# Altium footprint library Components.PcbLib: 29 footprints (part 1 of 2)
Each footprint in its own frame and in the unit in brackets; x right, y up, seen from the top. Pads: shape width x height; smd on the part's side, far side on the other; paste and mask are expansions set on the pad; w line width, h text height; cw(c..) or ccw(c..) is an arc to the next point about the centre after c.
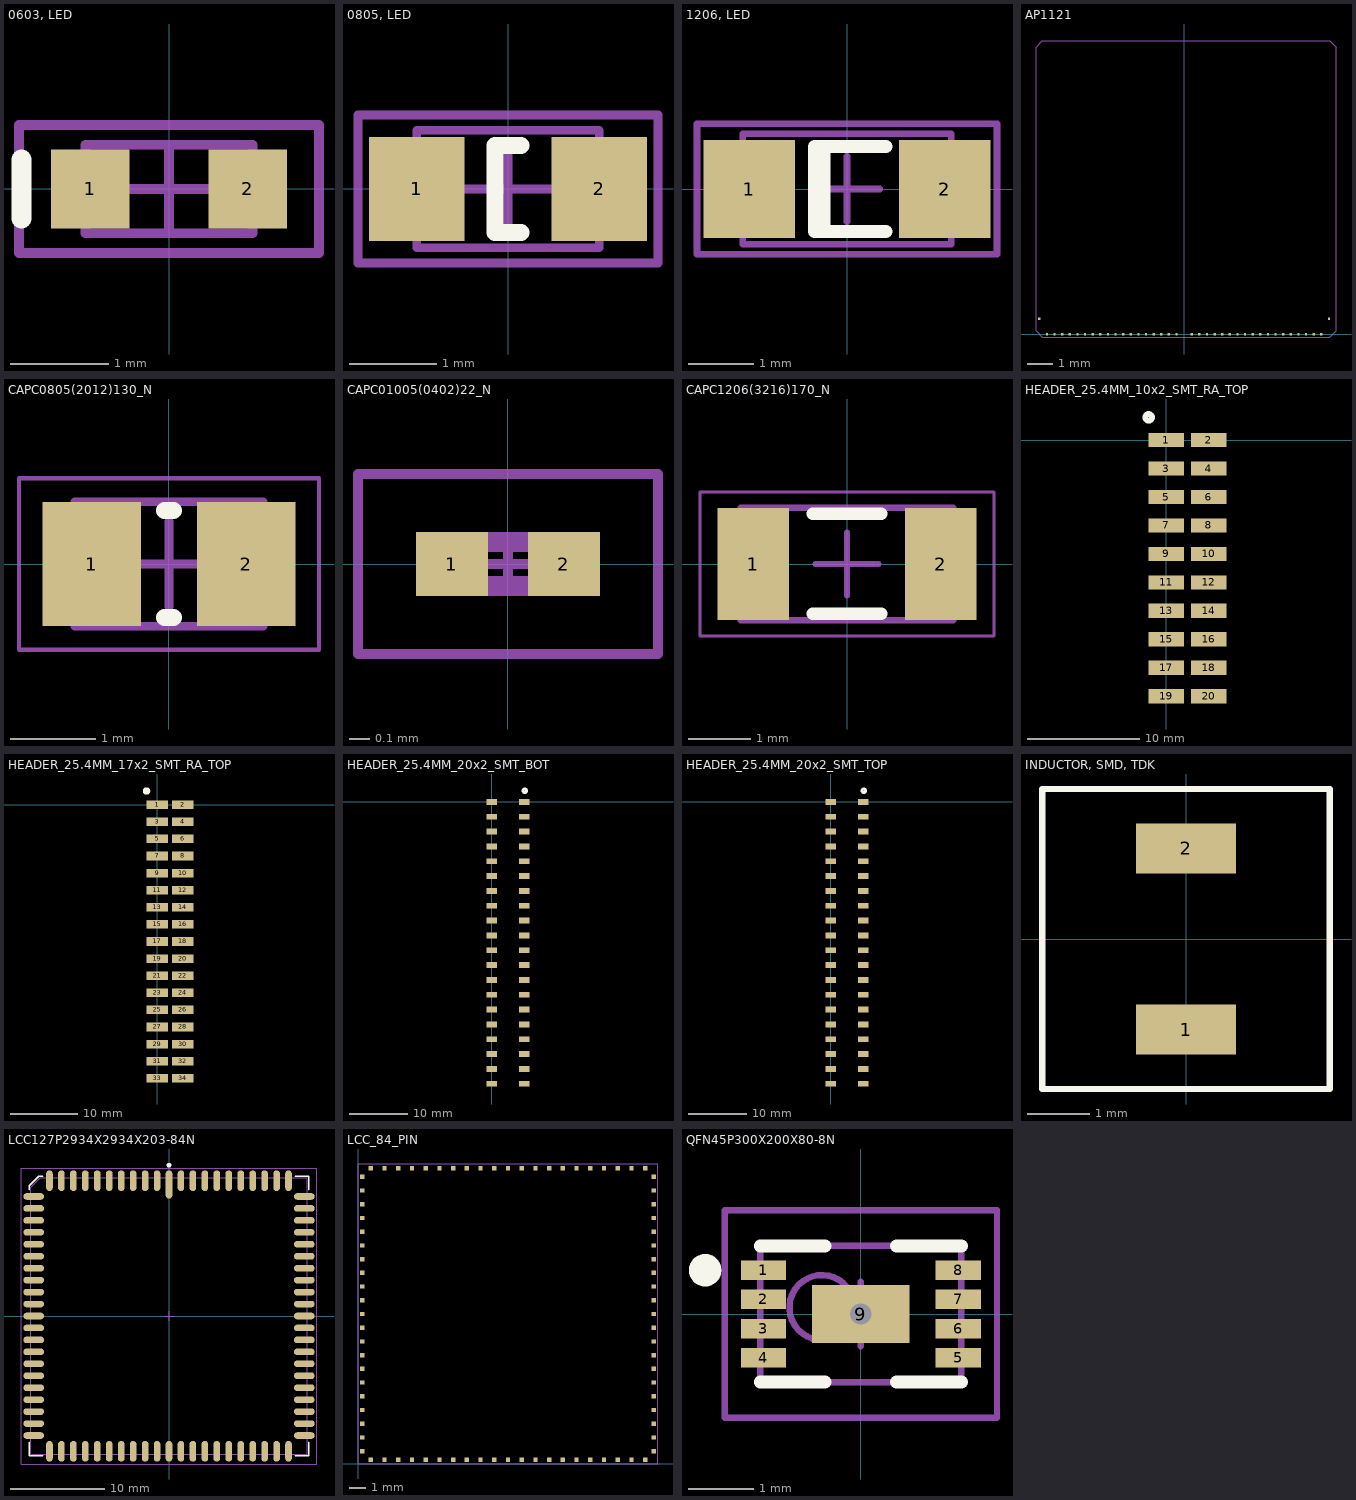
[diagram p0: the footprints below, top view; thin cyan lines are the x and y axes]

## 0603, LED [mm] "Chip LED, 2-Leads, Body 1.6x0.8mm, IPC Medium Density"
height 0.68
pads (2):
  rect 0.8x0.8 smd: 1(-0.8,0) 2(0.8,0)
Top Overlay:
  lines w0.2: -1.5,-0.3 -1.5,0.3
Mechanical 13:
  lines w0.1: -0.85,-0.45 -0.85,0.45 0.85,0.45 0.85,-0.45 -0.85,-0.45
Mechanical 15:
  lines w0.1: -0.45,0 0.45,0 ; 0,-0.45 0,0.45 ; -1.525,-0.65 -1.525,0.65 1.525,0.65 1.525,-0.65 -1.525,-0.65
3D body: height 0.7, standoff 0, extent -0.8,-0.4 0.8,0.4

## 0805, LED [mm] "Chip LED, 2-Leads, Body 2.0x1.3mm, IPC Medium Density"
height 0.8
pads (2):
  rect 1.1x1.2 smd: 1(-1.05,0) 2(1.05,0)
Top Overlay:
  lines w0.2: 0.15,-0.5 -0.15,-0.5 -0.15,0.5 0.15,0.5
Mechanical 13:
  lines w0.1: -1.05,-0.675 1.05,-0.675 1.05,0.675 -1.05,0.675 -1.05,-0.675
Mechanical 15:
  lines w0.1: -0.5,0 0.5,0 ; 0,-0.5 0,0.5 ; -1.725,-0.85 1.725,-0.85 1.725,0.85 -1.725,0.85 -1.725,-0.85
3D body: height 0.68, standoff -0.02, extent -1,-0.625 1,0.625

## 1206, LED [mm] "Chip LED, 2-Leads, Body 3.2x1.6mm, IPC Medium Density"
height 0.69
pads (2):
  rect 1.4x1.5 smd: 1(-1.5,0) 2(1.5,0)
Top Overlay:
  rectangle: -0.458,-0.665 -0.254,0.635
  lines w0.2: 0.6,-0.65 -0.5,-0.65 -0.5,0.65 0.6,0.65
Mechanical 13:
  lines w0.1: -1.6,-0.85 1.6,-0.85 1.6,0.85 -1.6,0.85 -1.6,-0.85
Mechanical 15:
  lines w0.1: -0.5,0 0.5,0 ; 0,-0.5 0,0.5 ; -2.3,-1 2.3,-1 2.3,1 -2.3,1 -2.3,-1
3D body: height 0.68, standoff 0, extent -1.6,-0.8 1.6,0.8

## AP1121 [mm]
pads (39):
  rect 0.09x0.1 smd paste+0 mask+0: 1(-5.41,0) 2(-5.11,0) 3(-4.81,0) 4(-4.51,0) 5(-4.21,0) 6(-3.91,0) 7(-3.61,0) 8(-3.31,0) 9(-3.01,0) 10(-2.71,0) 11(-2.41,0) 12(-2.11,0) 13(-1.81,0) 14(-1.51,0) 15(-1.21,0) 16(-0.91,0) 17(-0.61,0) 18(-0.31,0) 19(0.29,0) 20(0.59,0) 21(0.89,0) 22(1.19,0) 23(1.49,0) 24(1.79,0) 25(2.09,0) 26(2.39,0) 27(2.69,0) 28(2.99,0) 29(3.29,0) 30(3.59,0) 31(3.89,0) 32(4.19,0) 33(4.49,0) 34(4.79,0) 35(5.09,0) 36(5.39,0) 36(5.39,0) L(-5.71,0.6) R(5.69,0.6)
Mechanical 1:
  lines w0.025: -5.842,0.127 -5.842,11.303 -5.588,11.557 5.715,11.557 5.969,11.303 5.969,0.127 5.715,-0.127 0,-0.127 -5.588,-0.127 -5.842,0.127

## CAPC0805(2012)130_N [mm] "Chip Capacitor, Body 2.0x1.2mm, Height 1.3mm, IPC Medium Density"
height 1.3
pads (2):
  rect 1.15x1.45 smd: 1(-0.9,0) 2(0.9,0)
Top Overlay:
  lines w0.2: -0.05,-0.625 0.05,-0.625 ; -0.05,0.625 0.05,0.625
Mechanical 13:
  lines w0.1: -1.1,-0.725 1.1,-0.725 1.1,0.725 -1.1,0.725 -1.1,-0.725
Mechanical 15:
  lines w0.05: -1.75,-1 1.75,-1 1.75,1 -1.75,1 -1.75,-1
  lines w0.1: -0.5,0 0.5,0 ; 0,-0.5 0,0.5
3D body: height 1.3, standoff 0, extent 0.6,-0.725 1.1,0.725
3D body: height 1.3, standoff 0, extent -1.1,-0.725 -0.6,0.725
3D body: height 1.3, standoff 0, extent -0.6,-0.725 0.6,0.725

## CAPC01005(0402)22_N [mm] "Chip Capacitor, Body 0.4x0.2mm, Height 0.22mm, IPC Medium Density"
height 0.22
pads (2):
  rect 0.36x0.32 smd: 1(-0.28,0) 2(0.28,0)
Mechanical 13:
  lines w0.1: -0.21,-0.11 -0.21,0.11 0.21,0.11 0.21,-0.11 -0.21,-0.11
Mechanical 15:
  lines w0.05: -0.11,0 0.11,0 ; 0,-0.11 0,0.11 ; -0.75,-0.45 -0.75,0.45 0.75,0.45 0.75,-0.45 -0.75,-0.45
3D body: height 0.22, standoff 0, extent -0.11,-0.11 0.11,0.11
3D body: height 0.22, standoff 0, extent -0.21,-0.11 -0.11,0.11
3D body: height 0.22, standoff 0, extent 0.11,-0.11 0.21,0.11

## CAPC1206(3216)170_N [mm] "Chip Capacitor, Body 3.2x1.6mm, Height 1.7mm, IPC Medium Density"
height 1.7
pads (2):
  rect 1.15x1.8 smd: 1(-1.5,0) 2(1.5,0)
Top Overlay:
  lines w0.2: -0.55,-0.8 0.55,-0.8 ; -0.55,0.8 0.55,0.8
Mechanical 13:
  lines w0.1: -1.7,-0.9 1.7,-0.9 1.7,0.9 -1.7,0.9 -1.7,-0.9
Mechanical 15:
  lines w0.05: -2.35,-1.15 2.35,-1.15 2.35,1.15 -2.35,1.15 -2.35,-1.15
  lines w0.1: -0.5,0 0.5,0 ; 0,-0.5 0,0.5
3D body: height 1.7, standoff 0, extent 1.2,-0.9 1.7,0.9
3D body: height 1.7, standoff 0, extent -1.7,-0.9 -1.2,0.9
3D body: height 1.7, standoff 0, extent -1.2,-0.9 1.2,0.9

## DCB Package [mm] "8-lead (2mm x 3mm) Plastic DFN w/ expoed pad"
height 0.75

## HEADER_25.4MM_10x2_SMT_RA_TOP [mm] "Samtec TSM 0.1\" 1x10 Header"
height 9.65
pads (20):
  rect 3.18x1.27 smd: 1(0,0) 2(3.81,0) 3(0,-2.54) 4(3.81,-2.54) 5(0,-5.08) 6(3.81,-5.08) 7(0,-7.62) 8(3.81,-7.62) 9(0,-10.16) 10(3.81,-10.16) 11(0,-12.7) 12(3.81,-12.7) 13(0,-15.24) 14(3.81,-15.24) 15(0,-17.78) 16(3.81,-17.78) 17(0,-20.32) 18(3.81,-20.32) 19(0,-22.86) 20(3.81,-22.86)
Top Overlay:
  circle w0.5: c-1.57,2.032 r0.3
3D body: height 6.1, standoff 0, extent -1.143,-24.13 15.113,1.27

## HEADER_25.4MM_17x2_SMT_RA_TOP [mm] "Samtec TSM 0.1\" 1x17 Header"
height 9.65
pads (34):
  rect 3.18x1.27 smd: 1(0,0) 2(3.81,0) 3(0,-2.54) 4(3.81,-2.54) 5(0,-5.08) 6(3.81,-5.08) 7(0,-7.62) 8(3.81,-7.62) 9(0,-10.16) 10(3.81,-10.16) 11(0,-12.7) 12(3.81,-12.7) 13(0,-15.24) 14(3.81,-15.24) 15(0,-17.78) 16(3.81,-17.78) 17(0,-20.32) 18(3.81,-20.32) 19(0,-22.86) 20(3.81,-22.86) 21(0,-25.4) 22(3.81,-25.4) 23(0,-27.94) 24(3.81,-27.94) 25(0,-30.48) 26(3.81,-30.48) 27(0,-33.02) 28(3.81,-33.02) 29(0,-35.56) 30(3.81,-35.56) 31(0,-38.1) 32(3.81,-38.1) 33(0,-40.64) 34(3.81,-40.64)
Top Overlay:
  circle w0.5: c-1.57,2.032 r0.3
3D body: height 6.05, standoff -0.05, extent -0.889,-41.91 15.367,1.27

## HEADER_25.4MM_20x2_SMT_BOT [mm] "Samtec TSM 0.1\" 2x20 Header"
height 9.65
pads (40):
  rect 1.82x1 smd: 1(5.588,0) 2(0,0) 3(5.588,-2.54) 4(0,-2.54) 5(5.588,-5.08) 6(0,-5.08) 7(5.588,-7.62) 8(0,-7.62) 9(5.588,-10.16) 10(0,-10.16) 11(5.588,-12.7) 12(0,-12.7) 13(5.588,-15.24) 14(0,-15.24) 15(5.588,-17.78) 16(0,-17.78) 17(5.588,-20.32) 18(0,-20.32) 19(5.588,-22.86) 20(0,-22.86) 21(5.588,-25.4) 22(0,-25.4) 23(5.588,-27.94) 24(0,-27.94) 25(5.588,-30.48) 26(0,-30.48) 27(5.588,-33.02) 28(0,-33.02) 29(5.588,-35.56) 30(0,-35.56) 31(5.588,-38.1) 32(0,-38.1) 33(5.588,-40.64) 34(0,-40.64) 35(5.588,-43.18) 36(0,-43.18) 37(5.588,-45.72) 38(0,-45.72) 39(5.588,-48.26) 40(0,-48.26)
Top Overlay:
  circle w0.5: c5.669,1.905 r0.3
  text ".Designator" at -0.889,1.905 h1.02
3D body: height 9.61, standoff -0.04, extent -0.889,-49.53 6.477,1.27

## HEADER_25.4MM_20x2_SMT_TOP [mm] "Samtec TSM 0.1\" 2x20 Header"
height 9.65
pads (40):
  rect 1.82x1 smd: 1(0,0) 2(5.588,0) 3(0,-2.54) 4(5.588,-2.54) 5(0,-5.08) 6(5.588,-5.08) 7(0,-7.62) 8(5.588,-7.62) 9(0,-10.16) 10(5.588,-10.16) 11(0,-12.7) 12(5.588,-12.7) 13(0,-15.24) 14(5.588,-15.24) 15(0,-17.78) 16(5.588,-17.78) 17(0,-20.32) 18(5.588,-20.32) 19(0,-22.86) 20(5.588,-22.86) 21(0,-25.4) 22(5.588,-25.4) 23(0,-27.94) 24(5.588,-27.94) 25(0,-30.48) 26(5.588,-30.48) 27(0,-33.02) 28(5.588,-33.02) 29(0,-35.56) 30(5.588,-35.56) 31(0,-38.1) 32(5.588,-38.1) 33(0,-40.64) 34(5.588,-40.64) 35(0,-43.18) 36(5.588,-43.18) 37(0,-45.72) 38(5.588,-45.72) 39(0,-48.26) 40(5.588,-48.26)
Top Overlay:
  circle w0.5: c5.669,1.905 r0.3
  text ".Designator" at -0.889,1.905 h1.02
3D body: height 9.61, standoff -0.04, extent -0.889,-49.53 6.477,1.27

## INDUCTOR, SMD, TDK [mm] "TDK VLF SERIES, VLF5014S"
height 1.4
pads (2):
  rect 1.6x0.8 smd: 1(0,-1.45) 2(0,1.45)
Top Overlay:
  lines w0.1: -2.3,-2.4 -2.3,2.4 2.3,2.4 2.3,-2.4 -2.3,-2.4

## LCC127P2934X2934X203-84N [mm] "LCC, 84-Pins, Body 29.7x29.7mm (max), Pitch 1.27mm, IPC Medium Density"
height 2.03
pads (84):
  oval 0.7x3 smd: 1(0,13.975)
  oval 0.7x2.2 smd: 2(-1.27,14.375) 3(-2.54,14.375) 4(-3.81,14.375) 5(-5.08,14.375) 6(-6.35,14.375) 7(-7.62,14.375) 8(-8.89,14.375) 9(-10.16,14.375) 10(-11.43,14.375) 11(-12.7,14.375) 33(-12.7,-14.375) 34(-11.43,-14.375) 35(-10.16,-14.375) 36(-8.89,-14.375) 37(-7.62,-14.375) 38(-6.35,-14.375) 39(-5.08,-14.375) 40(-3.81,-14.375) 41(-2.54,-14.375) 42(-1.27,-14.375) 43(0,-14.375) 44(1.27,-14.375) 45(2.54,-14.375) 46(3.81,-14.375) 47(5.08,-14.375) 48(6.35,-14.375) 49(7.62,-14.375) 50(8.89,-14.375) 51(10.16,-14.375) 52(11.43,-14.375) 53(12.7,-14.375) 75(12.7,14.375) 76(11.43,14.375) 77(10.16,14.375) 78(8.89,14.375) 79(7.62,14.375) 80(6.35,14.375) 81(5.08,14.375) 82(3.81,14.375) 83(2.54,14.375) 84(1.27,14.375)
  oval 2.2x0.7 smd: 12(-14.375,12.7) 13(-14.375,11.43) 14(-14.375,10.16) 15(-14.375,8.89) 16(-14.375,7.62) 17(-14.375,6.35) 18(-14.375,5.08) 19(-14.375,3.81) 20(-14.375,2.54) 21(-14.375,1.27) 22(-14.375,0) 23(-14.375,-1.27) 24(-14.375,-2.54) 25(-14.375,-3.81) 26(-14.375,-5.08) 27(-14.375,-6.35) 28(-14.375,-7.62) 29(-14.375,-8.89) 30(-14.375,-10.16) 31(-14.375,-11.43) 32(-14.375,-12.7) 54(14.375,-12.7) 55(14.375,-11.43) 56(14.375,-10.16) 57(14.375,-8.89) 58(14.375,-7.62) 59(14.375,-6.35) 60(14.375,-5.08) 61(14.375,-3.81) 62(14.375,-2.54) 63(14.375,-1.27) 64(14.375,0) 65(14.375,1.27) 66(14.375,2.54) 67(14.375,3.81) 68(14.375,5.08) 69(14.375,6.35) 70(14.375,7.62) 71(14.375,8.89) 72(14.375,10.16) 73(14.375,11.43) 74(14.375,12.7)
Top Overlay:
  circle w0.25: c0,16.025 r0.125
  lines w0.2: -14.85,-13.45 -14.85,-14.85 -13.45,-14.85 ; -14.85,13.45 -14.85,13.85 -13.85,14.85 -13.45,14.85 ; 13.45,-14.85 14.85,-14.85 14.85,-13.45 ; 13.45,14.85 14.85,14.85 14.85,13.45
Mechanical 13:
  lines w0.1: -14.67,-14.67 -14.67,13.67 -13.67,14.67 14.67,14.67 14.67,-14.67 -14.67,-14.67
Mechanical 15:
  lines w0.1: -0.5,0 0.5,0 ; 0,-0.5 0,0.5 ; -15.725,-15.725 -15.725,15.725 15.725,15.725 15.725,-15.725 -15.725,-15.725
3D body: height 2.03, standoff 0, extent -14.67,-14.67 14.67,14.67

## LCC_84_PIN [mil]
pads (84):
  rect 10x10 smd paste+0 mask+0: 1(690,350) 2(690,382) 3(690,414) 4(690,446) 5(690,478) 6(690,510) 7(690,542) 8(690,574) 9(690,606) 10(690,638) 11(690,670) 12(670,690) 13(638,690) 14(606,690) 15(574,690) 16(542,690) 17(510,690) 18(478,690) 19(446,690) 20(414,690) 21(382,690) 22(350,690) 23(318,690) 24(286,690) 25(254,690) 26(222,690) 27(190,690) 28(158,690) 29(126,690) 30(94,690) 31(62,690) 32(30,690) 33(10,670) 34(10,638) 35(10,606) 36(10,574) 37(10,542) 38(10,510) 39(10,478) 40(10,446) 41(10,414) 42(10,382) 43(10,350) 44(10,318) 45(10,286) 46(10,254) 47(10,222) 48(10,190) 49(10,158) 50(10,126) 51(10,94) 52(10,62) 53(10,30) 54(30,10) 55(62,10) 56(94,10) 57(126,10) 58(158,10) 59(190,10) 60(222,10) 61(254,10) 62(286,10) 63(318,10) 64(350,10) 65(382,10) 66(414,10) 67(446,10) 68(478,10) 69(510,10) 70(542,10) 71(574,10) 72(606,10) 73(638,10) 74(670,10) 75(690,30) 76(690,62) 77(690,94) 78(690,126) 79(690,158) 80(690,190) 81(690,222) 82(690,254) 83(690,286) 84(690,318)
Mechanical 1:
  lines w1: 0,0 700,0 700,700 0,700 0,0

## QFN45P300X200X80-8N [mm] "QFN, 8-Leads, Body 2.1x3.1mm (max), Pitch 0.45mm, IPC Medium Density"
height 0.8
pads (9):
  rect 0.7x0.3 smd: 1(-1.5,0.675) 2(-1.5,0.225) 3(-1.5,-0.225) 4(-1.5,-0.675) 5(1.5,-0.675) 6(1.5,-0.225) 7(1.5,0.225) 8(1.5,0.675)
  rect 1.5x0.9 smd: 9(0,0)
via 0,0 diameter 0.66 hole 0.33
Top Overlay:
  circle w0.25: c-2.4,0.675 r0.125
  lines w0.2: -1.55,-1.05 -0.55,-1.05 ; -1.55,1.05 -0.55,1.05 ; 0.55,-1.05 1.55,-1.05 ; 0.55,1.05 1.55,1.05
Mechanical 13:
  circle w0.1: c-0.6,0.1 r0.5
  lines w0.1: -1.55,-1.05 1.55,-1.05 1.55,1.05 -1.55,1.05 -1.55,-1.05
Mechanical 15:
  lines w0.1: -0.5,0 0.5,0 ; 0,-0.5 0,0.5 ; -2.1,-1.6 2.1,-1.6 2.1,1.6 -2.1,1.6 -2.1,-1.6
3D body: height 0.8, standoff 0.05, extent -1.55,-1.05 1.55,1.05